# Altium integrated library TI_Logic_Flip-Flop,Latch,Register.IntLib: 2598 symbols (part 47 of 122)
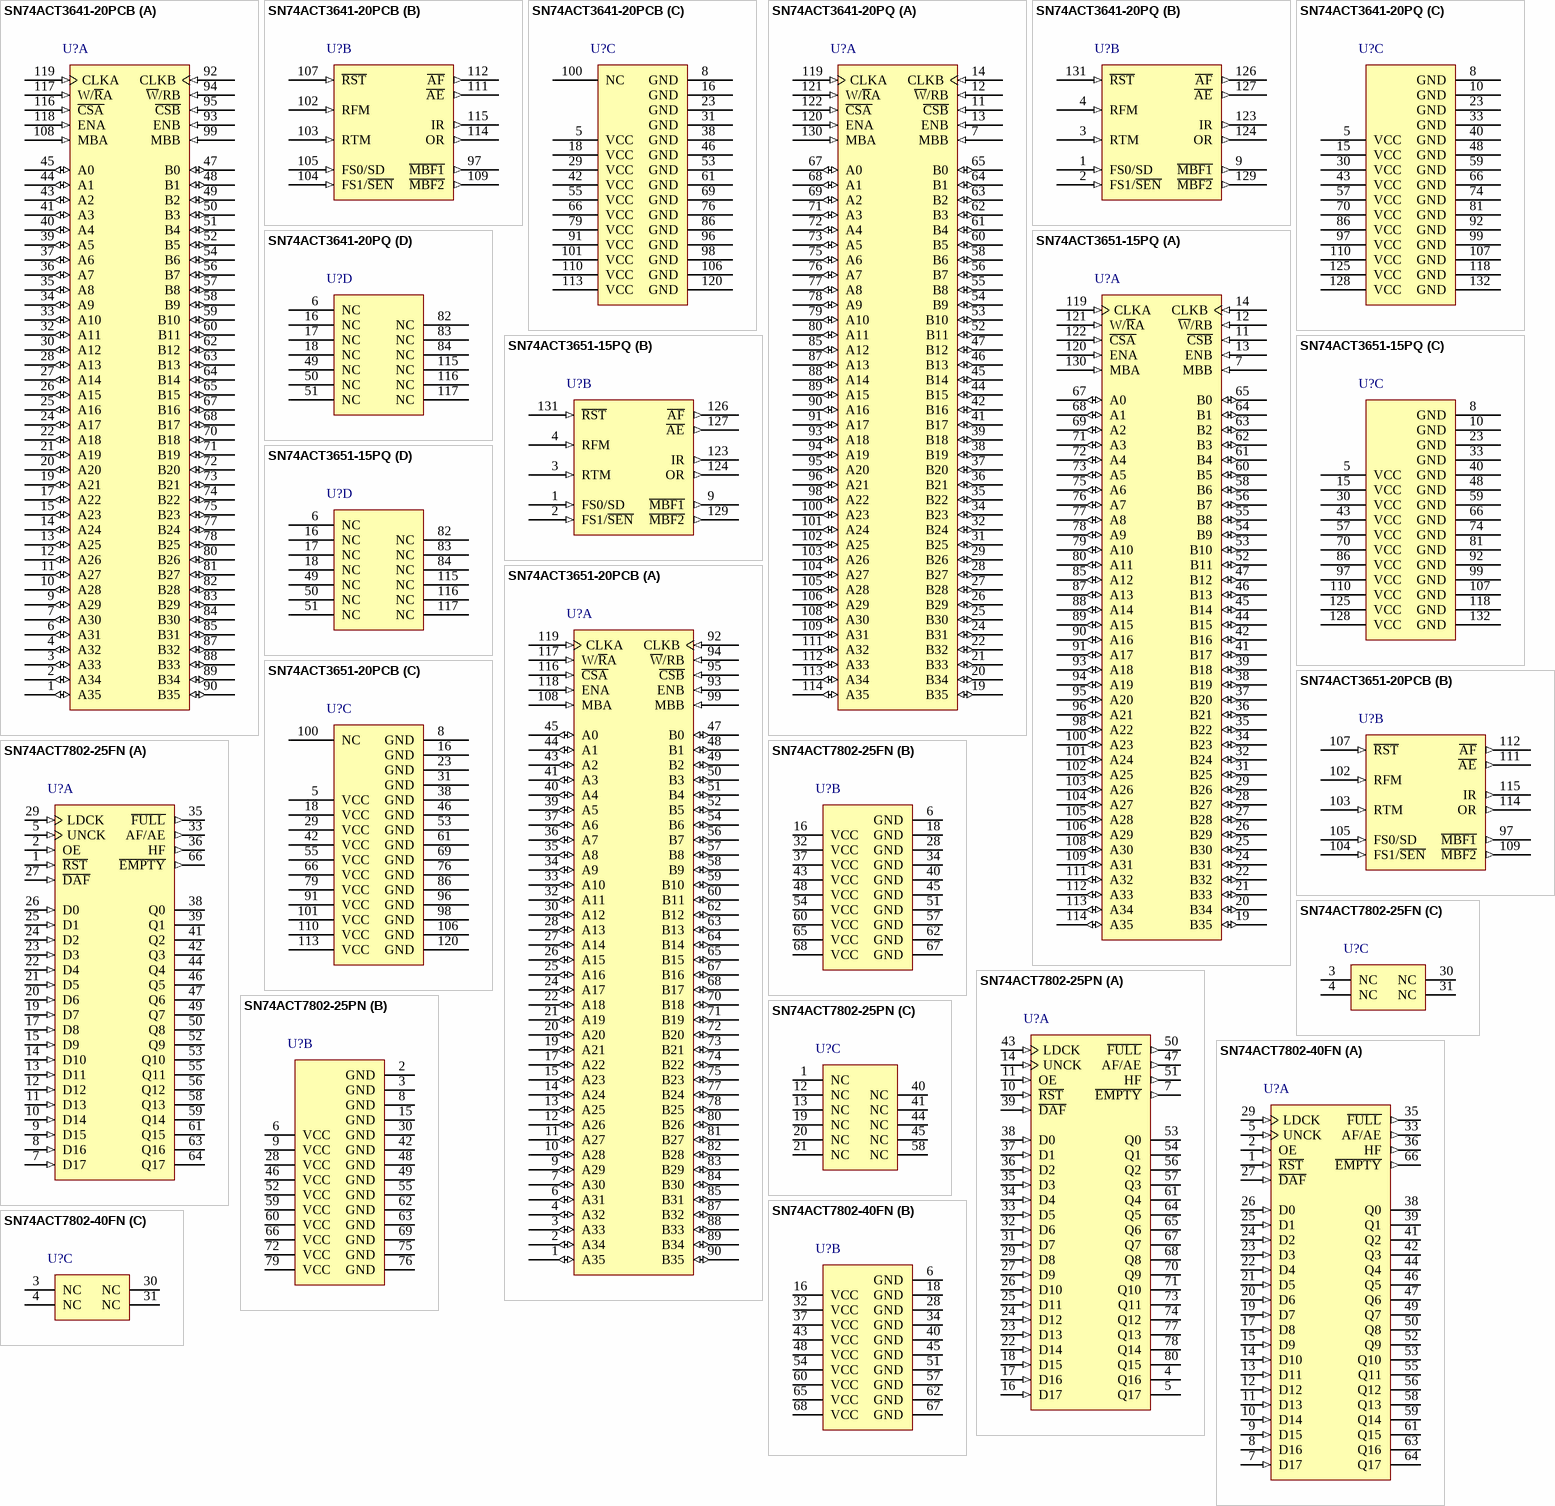
[diagram p185: symbols SN74ACT3641-20PCB to SN74ACT7802-40FN]

## SN74ACT3651-20PCB
designator U?
2048 x 36 synchronous FIFO Memory, PCB0120A, JEDEC TRAY (5+1); Generic Part Number: SN74ACT3651; Manufacturer: Texas Instruments; PartNumber: SN74ACT3651-20PCB; Fmax(MHz): 67; Voltage Nodes(V): 5; Sync/Async: S; Rating: Catalog; Output Drive(mA): -0.5; DatasheetVersion: SCAS439D; PackageReference: PCB0120A; Depth: 2048; Width: 36; Operating Temperature Range(C): 0 to 70; Code_JEDEC: MS-026; ComponentLink1Description: Manufacturer URL; ComponentLink1URL: http://www.ti.com/; ComponentLink2Description: Datasheet; ComponentLink2URL: http://www.ti.com/lit/ds/symlink/sn74act3651.pdf; ComponentLink3Description: Package Specification; ComponentLink3URL: http://www.ti.com/lit/ml/mhtq004a/mhtq004a.pdf
footprint PCB0120A_N (QFP, 120-Leads, Body 14x14mm, Pitch 0.4mm, IPC Medium Density)
footprint PCB0120A_M (QFP, 120-Leads, Body 14x14mm, Pitch 0.4mm, IPC Low Density)
footprint PCB0120A_L (QFP, 120-Leads, Body 14x14mm, Pitch 0.4mm, IPC High Density)
part A pins: 1 A35 (io) "Port-A data. The 36-bit bidirectional data port for side A.", 2 A34 (io) "Port-A data. The 36-bit bidirectional data port for side A.", 3 A33 (io) "Port-A data. The 36-bit bidirectional data port for side A.", 4 A32 (io) "Port-A data. The 36-bit bidirectional data port for side A.", 6 A31 (io) "Port-A data. The 36-bit bidirectional data port for side A.", 7 A30 (io) "Port-A data. The 36-bit bidirectional data port for side A.", 9 A29 (io) "Port-A data. The 36-bit bidirectional data port for side A.", 10 A28 (io) "Port-A data. The 36-bit bidirectional data port for side A.", 11 A27 (io) "Port-A data. The 36-bit bidirectional data port for side A.", 12 A26 (io) "Port-A data. The 36-bit bidirectional data port for side A.", 13 A25 (io) "Port-A data. The 36-bit bidirectional data port for side A.", 14 A24 (io) "Port-A data. The 36-bit bidirectional data port for side A.", 15 A23 (io) "Port-A data. The 36-bit bidirectional data port for side A.", 17 A22 (io) "Port-A data. The 36-bit bidirectional data port for side A.", 19 A21 (io) "Port-A data. The 36-bit bidirectional data port for side A.", 20 A20 (io) "Port-A data. The 36-bit bidirectional data port for side A.", 21 A19 (io) "Port-A data. The 36-bit bidirectional data port for side A.", 22 A18 (io) "Port-A data. The 36-bit bidirectional data port for side A.", 24 A17 (io) "Port-A data. The 36-bit bidirectional data port for side A.", 25 A16 (io) "Port-A data. The 36-bit bidirectional data port for side A.", 26 A15 (io) "Port-A data. The 36-bit bidirectional data port for side A.", 27 A14 (io) "Port-A data. The 36-bit bidirectional data port for side A.", 28 A13 (io) "Port-A data. The 36-bit bidirectional data port for side A.", 30 A12 (io) "Port-A data. The 36-bit bidirectional data port for side A.", 32 A11 (io) "Port-A data. The 36-bit bidirectional data port for side A.", 33 A10 (io) "Port-A data. The 36-bit bidirectional data port for side A.", 34 A9 (io) "Port-A data. The 36-bit bidirectional data port for side A.", 35 A8 (io) "Port-A data. The 36-bit bidirectional data port for side A.", 36 A7 (io) "Port-A data. The 36-bit bidirectional data port for side A.", 37 A6 (io) "Port-A data. The 36-bit bidirectional data port for side A.", 39 A5 (io) "Port-A data. The 36-bit bidirectional data port for side A.", 40 A4 (io) "Port-A data. The 36-bit bidirectional data port for side A.", 41 A3 (io) "Port-A data. The 36-bit bidirectional data port for side A.", 43 A2 (io) "Port-A data. The 36-bit bidirectional data port for side A.", 44 A1 (io) "Port-A data. The 36-bit bidirectional data port for side A.", 45 A0 (io) "Port-A data. The 36-bit bidirectional data port for side A.", 47 B0 (io) "Port-B data. The 36-bit bidirectional data port for side B.", 48 B1 (io) "Port-B data. The 36-bit bidirectional data port for side B.", 49 B2 (io) "Port-B data. The 36-bit bidirectional data port for side B.", 50 B3 (io) "Port-B data. The 36-bit bidirectional data port for side B.", 51 B4 (io) "Port-B data. The 36-bit bidirectional data port for side B.", 52 B5 (io) "Port-B data. The 36-bit bidirectional data port for side B.", 54 B6 (io) "Port-B data. The 36-bit bidirectional data port for side B.", 56 B7 (io) "Port-B data. The 36-bit bidirectional data port for side B.", 57 B8 (io) "Port-B data. The 36-bit bidirectional data port for side B.", 58 B9 (io) "Port-B data. The 36-bit bidirectional data port for side B.", 59 B10 (io) "Port-B data. The 36-bit bidirectional data port for side B.", 60 B11 (io) "Port-B data. The 36-bit bidirectional data port for side B.", 62 B12 (io) "Port-B data. The 36-bit bidirectional data port for side B.", 63 B13 (io) "Port-B data. The 36-bit bidirectional data port for side B.", 64 B14 (io) "Port-B data. The 36-bit bidirectional data port for side B.", 65 B15 (io) "Port-B data. The 36-bit bidirectional data port for side B.", 67 B16 (io) "Port-B data. The 36-bit bidirectional data port for side B.", 68 B17 (io) "Port-B data. The 36-bit bidirectional data port for side B.", 70 B18 (io) "Port-B data. The 36-bit bidirectional data port for side B.", 71 B19 (io) "Port-B data. The 36-bit bidirectional data port for side B.", 72 B20 (io) "Port-B data. The 36-bit bidirectional data port for side B.", 73 B21 (io) "Port-B data. The 36-bit bidirectional data port for side B.", 74 B22 (io) "Port-B data. The 36-bit bidirectional data port for side B.", 75 B23 (io) "Port-B data. The 36-bit bidirectional data port for side B.", 77 B24 (io) "Port-B data. The 36-bit bidirectional data port for side B.", 78 B25 (io) "Port-B data. The 36-bit bidirectional data port for side B.", 80 B26 (io) "Port-B data. The 36-bit bidirectional data port for side B.", 81 B27 (io) "Port-B data. The 36-bit bidirectional data port for side B.", 82 B28 (io) "Port-B data. The 36-bit bidirectional data port for side B.", 83 B29 (io) "Port-B data. The 36-bit bidirectional data port for side B.", 84 B30 (io) "Port-B data. The 36-bit bidirectional data port for side B.", 85 B31 (io) "Port-B data. The 36-bit bidirectional data port for side B.", 87 B32 (io) "Port-B data. The 36-bit bidirectional data port for side B.", 88 B33 (io) "Port-B data. The 36-bit bidirectional data port for side B.", 89 B34 (io) "Port-B data. The 36-bit bidirectional data port for side B.", 90 B35 (io) "Port-B data. The 36-bit bidirectional data port for side B.", 92 CLKB (in) "Port-B clock. CLKB is a continuous clock that synchronizes all data transfers through port B and can be asynchronous or coincident to CLKA. OR and A\E\ are synchronous to the low-to-high transition of CLKB.", 93 ENB (in) "Port-B master enable. ENB must be high to enable a low-to-high transition of CLKB to read or write data on port B.", 94 ~{W}/RB (in) "Port-B write/read select. A low on W\/RB selects a write operation and a high selects a read operation on port B for a low-to-high transition of CLKB. The B0-B35 outputs are in the high-impedance state when W\/RB is low.", 95 ~{CSB} (in) "Port-B chip select. C\S\B\ must be low to enable a low-to-high transition of CLKB to read or write data on port B. The B0-B35 outputs are in the high-impedance state when C\S\B\ is high.", 99 MBB (in) "Port-B mailbox select. A high level on MBB chooses a mailbox register for a port-B read or write operation. When the B0-B35 outputs are active, a high level on MBB selects data from the mail1 register for output and a low (See Datasheet)", 108 MBA (in) "Port-A mailbox select. A high level on MBA chooses a mailbox register for a port-A read or write operation.", 116 ~{CSA} (in) "Port-A chip select. C\S\A\ must be low to enable a low-to-high transition of CLKA to read or write data on port A. The A0-A35 outputs are in the high-impedance state when C\S\A\ is high.", 117 W/~{R}A (in) "Port-A write/read select. A high on W/R\A selects a write operation and a low selects a read operation on port A for a low-to-high transition of CLKA. The A0-A35 outputs are in the high-impedance state when W/R\A is high.", 118 ENA (in) "Port-A master enable. ENA must be high to enable a low-to-high transition of CLKA to read or write data on port A.", 119 CLKA (in) "Port-A clock. CLKA is a continuous clock that synchronizes all data transfers through port A and can be asynchronous or coincident to CLKB. IR and A\F\ are synchronous to the low-to-high transition of CLKA."
part B pins: 97 ~{MBF1} (out) "Mail1 register flag. M\B\F\1\ is set low by the low-to-high transition of CLKA that writes data to the mail1 register. M\B\F\1\ is set high by a low-to-high transition of CLKB when a port-B read is selected and MBB is high. (See Datasheet)", 102 RFM (in) "Read from mark. When the FIFO is in retransmit mode, a high on RFM enables a low-to-high transition of CLKB to reset the read pointer to the beginning retransmit location and output the first selected retransmit data.", 103 RTM (in) "Retransmit mode. When RTM is high and valid data is present in the FIFO output register (OR is high), a low-to-high transition of CLKB selects the data for the beginning of a retransmit and puts the FIFO in retransmit mode. (See Datasheet)", 104 FS1/~{SEN} (in) "Flag-offset select 1/serial enable, flag-offset select 0/serial data. FS1/S\E\N\ and FS0/SD are dual-purpose inputs used for flag-offset-register programming. During a device reset, FS1/S\E\N\ and FS0/SD select the (See Datasheet)", 105 FS0/SD (in) "Flag-offset select 1/serial enable, flag-offset select 0/serial data. FS1/S\E\N\ and FS0/SD are dual-purpose inputs used for flag-offset-register programming. During a device reset, FS1/S\E\N\ and FS0/SD select the (See Datasheet)", 107 ~{RST} (in) "Reset. To reset the device, four low-to-high transitions of CLKA and four low-to-high transitions of CLKB must occur while R\S\T\ is low. The low-to-high transition of R\S\T\ latches the status of FS0 and FS1 for A\F\ and (See Datasheet)", 109 ~{MBF2} (out) "Mail2 register flag. M\B\F\2\ is set low by the low-to-high transition of CLKB that writes data to the mail2 register. M\B\F\2\ is set high by a low-to-high transition of CLKA when a port-A read is selected and MBA is high. (See Datasheet)", 111 ~{AE} (out) "Almost-empty flag. Programmable flag synchronized to CLKB. A\E\ is low when the number of words in the FIFO is less than or equal to the value in the almost-empty offset register (X).", 112 ~{AF} (out) "Almost-full flag. Programmable flag synchronized to CLKA. A\F\ is low when the number of empty locations in the FIFO is less than or equal to the value in the almost-full offset register (Y).", 114 OR (out) "Output-ready flag. OR is synchronized to the low-to-high transition of CLKB. When OR is low, the FIFO is empty and reads are disabled. Ready data is present in the output register of the FIFO when OR is high. OR is forced (See Datasheet)", 115 IR (out) "Input-ready flag. IR is synchronized to the low-to-high transition of CLKA. When IR is low, the FIFO is full and writes to its array are disabled. When the FIFO is in retransmit mode, IR indicates when the memory has been (See Datasheet)"
part C pins: 5 VCC (power), 8 GND (power), 16 GND (power), 18 VCC (power), 23 GND (power), 29 VCC (power), 31 GND (power), 38 GND (power), 42 VCC (power), 46 GND (power), 53 GND (power), 55 VCC (power), 61 GND (power), 66 VCC (power), 69 GND (power), 76 GND (power), 79 VCC (power), 86 GND (power), 91 VCC (power), 96 GND (power), 98 GND (power), 100 NC, 101 VCC (power), 106 GND (power), 110 VCC (power), 113 VCC (power), 120 GND (power)

## SN74ACT7802-25FN
designator U?
1024 X 18 asynchronous FIFO memory, FN0068A, TUBE; Generic Part Number: SN74ACT7802; Manufacturer: Texas Instruments; PartNumber: SN74ACT7802-25FN; Vcc range(V): 4.5 to 5.5; Fmax(MHz): 40; Voltage Nodes(V): 5; Sync/Async: A; Rating: Catalog; Output Drive(mA): -0.5; DatasheetVersion: SCAS187D; PackageReference: FN0068A; Depth: 1024; Width: 18; Code_JEDEC: MS-018; ComponentLink1Description: Manufacturer URL; ComponentLink1URL: http://www.ti.com/; ComponentLink2Description: Datasheet; ComponentLink2URL: http://www.ti.com/lit/ds/symlink/sn74act7802.pdf; ComponentLink3Description: Package Specification; ComponentLink3URL: http://www.ti.com/lit/ml/mplc004a/mplc004a.pdf
footprint FN0068A_N (Leaded Chip Carrier, 68-Leads, Body 24.33x24.33mm, Pitch 1.27mm, IPC Medium Density)
footprint FN0068A_M (Leaded Chip Carrier, 68-Leads, Body 24.33x24.33mm, Pitch 1.27mm, IPC Low Density)
footprint FN0068A_L (Leaded Chip Carrier, 68-Leads, Body 24.33x24.33mm, Pitch 1.27mm, IPC High Density)
part A pins: 1 ~{RST} (in) "Reset. A low level on R\E\S\E\T\ resets the FIFO and drives AF/AE and F\U\L\L\ high and HF and E\M\P\T\Y\ low.", 2 OE (in) "Output enable. When OE is low, the data outputs are in the high-impedance state.", 5 UNCK (in) "Unload clock. Data is read from the FIFO on the rising edge of UNCK when E\M\P\T\Y\ is high.", 7 D17 (in) "18-bit data input port", 8 D16 (in) "18-bit data input port", 9 D15 (in) "18-bit data input port", 10 D14 (in) "18-bit data input port", 11 D13 (in) "18-bit data input port", 12 D12 (in) "18-bit data input port", 13 D11 (in) "18-bit data input port", 14 D10 (in) "18-bit data input port", 15 D9 (in) "18-bit data input port", 17 D8 (in) "18-bit data input port", 19 D7 (in) "18-bit data input port", 20 D6 (in) "18-bit data input port", 21 D5 (in) "18-bit data input port", 22 D4 (in) "18-bit data input port", 23 D3 (in) "18-bit data input port", 24 D2 (in) "18-bit data input port", 25 D1 (in) "18-bit data input port", 26 D0 (in) "18-bit data input port", 27 ~{DAF} (in) "Define almost-full flag. The high-to-low transition of D\A\F\ stores the binary value of data inputs as the AF/AE offset value (X). With DAF held low, a low pulse on R\E\S\E\T\ defines AF/AE using X.", 29 LDCK (in) "Load clock. Data is written to the FIFO on the rising edge of LDCK when F\U\L\L\ is high.", 33 AF/AE (out) "Almost-full/almost-empty flag. Depth-offset values can be programmed for AF/AE, or the default value of 256 can be used for the almost-empty almost-full offset (X). AF/AE is high when memory contains X or fewer words or (See Datasheet)", 35 ~{FULL} (out) "Full flag. F\U\L\L\ is low when the FIFO is full. A FIFO reset causes F\U\L\L\ to go high.", 36 HF (out) "Half-full flag. HF is high when the FIFO memory contains 512 or more words. HF is low after reset.", 38 Q0 (hiz) "18-bit data-output port", 39 Q1 (hiz) "18-bit data-output port", 41 Q2 (hiz) "18-bit data-output port", 42 Q3 (hiz) "18-bit data-output port", 44 Q4 (hiz) "18-bit data-output port", 46 Q5 (hiz) "18-bit data-output port", 47 Q6 (hiz) "18-bit data-output port", 49 Q7 (hiz) "18-bit data-output port", 50 Q8 (hiz) "18-bit data-output port", 52 Q9 (hiz) "18-bit data-output port", 53 Q10 (hiz) "18-bit data-output port", 55 Q11 (hiz) "18-bit data-output port", 56 Q12 (hiz) "18-bit data-output port", 58 Q13 (hiz) "18-bit data-output port", 59 Q14 (hiz) "18-bit data-output port", 61 Q15 (hiz) "18-bit data-output port", 63 Q16 (hiz) "18-bit data-output port", 64 Q17 (hiz) "18-bit data-output port", 66 ~{EMPTY} (out) "Empty flag. E\M\P\T\Y\ is low when the FIFO is empty. A FIFO reset also causes E\M\P\T\Y\ to go low."
part B pins: 6 GND (power), 16 VCC (power), 18 GND (power), 28 GND (power), 32 VCC (power), 34 GND (power), 37 VCC (power), 40 GND (power), 43 VCC (power), 45 GND (power), 48 VCC (power), 51 GND (power), 54 VCC (power), 57 GND (power), 60 VCC (power), 62 GND (power), 65 VCC (power), 67 GND (power), 68 VCC (power)
part C pins: 3 NC, 4 NC, 30 NC, 31 NC

## SN74ACT7802-25PN
designator U?
1024 X 18 asynchronous FIFO memory, PN0080A, JEDEC TRAY (10+1); Generic Part Number: SN74ACT7802; Manufacturer: Texas Instruments; PartNumber: SN74ACT7802-25PN; Vcc range(V): 4.5 to 5.5; Fmax(MHz): 40; Voltage Nodes(V): 5; Sync/Async: A; Rating: Catalog; Output Drive(mA): -0.5; DatasheetVersion: SCAS187D; PackageReference: PN0080A; Depth: 1024; Width: 18; Code_JEDEC: MS-026; ComponentLink1Description: Manufacturer URL; ComponentLink1URL: http://www.ti.com/; ComponentLink2Description: Datasheet; ComponentLink2URL: http://www.ti.com/lit/ds/symlink/sn74act7802.pdf; ComponentLink3Description: Package Specification; ComponentLink3URL: http://www.ti.com/lit/ml/mtqf010a/mtqf010a.pdf
footprint PN0080A_N (QFP, 80-Leads, Body 12x12mm, Pitch 0.5mm, IPC Medium Density)
footprint PN0080A_M (QFP, 80-Leads, Body 12x12mm, Pitch 0.5mm, IPC Low Density)
footprint PN0080A_L (QFP, 80-Leads, Body 12x12mm, Pitch 0.5mm, IPC High Density)
part A pins: 4 Q16 (hiz) "18-bit data-output port", 5 Q17 (hiz) "18-bit data-output port", 7 ~{EMPTY} (out) "Empty flag. E\M\P\T\Y\ is low when the FIFO is empty. A FIFO reset also causes E\M\P\T\Y\ to go low.", 10 ~{RST} (in) "Reset. A low level on R\E\S\E\T\ resets the FIFO and drives AF/AE and F\U\L\L\ high and HF and E\M\P\T\Y\ low.", 11 OE (in) "Output enable. When OE is low, the data outputs are in the high-impedance state.", 14 UNCK (in) "Unload clock. Data is read from the FIFO on the rising edge of UNCK when E\M\P\T\Y\ is high.", 16 D17 (in) "18-bit data input port", 17 D16 (in) "18-bit data input port", 18 D15 (in) "18-bit data input port", 22 D14 (in) "18-bit data input port", 23 D13 (in) "18-bit data input port", 24 D12 (in) "18-bit data input port", 25 D11 (in) "18-bit data input port", 26 D10 (in) "18-bit data input port", 27 D9 (in) "18-bit data input port", 29 D8 (in) "18-bit data input port", 31 D7 (in) "18-bit data input port", 32 D6 (in) "18-bit data input port", 33 D5 (in) "18-bit data input port", 34 D4 (in) "18-bit data input port", 35 D3 (in) "18-bit data input port", 36 D2 (in) "18-bit data input port", 37 D1 (in) "18-bit data input port", 38 D0 (in) "18-bit data input port", 39 ~{DAF} (in) "Define almost-full flag. The high-to-low transition of D\A\F\ stores the binary value of data inputs as the AF/AE offset value (X). With DAF held low, a low pulse on R\E\S\E\T\ defines AF/AE using X.", 43 LDCK (in) "Load clock. Data is written to the FIFO on the rising edge of LDCK when F\U\L\L\ is high.", 47 AF/AE (out) "Almost-full/almost-empty flag. Depth-offset values can be programmed for AF/AE, or the default value of 256 can be used for the almost-empty almost-full offset (X). AF/AE is high when memory contains X or fewer words or (See Datasheet)", 50 ~{FULL} (out) "Full flag. F\U\L\L\ is low when the FIFO is full. A FIFO reset causes F\U\L\L\ to go high.", 51 HF (out) "Half-full flag. HF is high when the FIFO memory contains 512 or more words. HF is low after reset.", 53 Q0 (hiz) "18-bit data-output port", 54 Q1 (hiz) "18-bit data-output port", 56 Q2 (hiz) "18-bit data-output port", 57 Q3 (hiz) "18-bit data-output port", 61 Q4 (hiz) "18-bit data-output port", 64 Q5 (hiz) "18-bit data-output port", 65 Q6 (hiz) "18-bit data-output port", 67 Q7 (hiz) "18-bit data-output port", 68 Q8 (hiz) "18-bit data-output port", 70 Q9 (hiz) "18-bit data-output port", 71 Q10 (hiz) "18-bit data-output port", 73 Q11 (hiz) "18-bit data-output port", 74 Q12 (hiz) "18-bit data-output port", 77 Q13 (hiz) "18-bit data-output port", 78 Q14 (hiz) "18-bit data-output port", 80 Q15 (hiz) "18-bit data-output port"
part B pins: 2 GND (power), 3 GND (power), 6 VCC (power), 8 GND (power), 9 VCC (power), 15 GND (power), 28 VCC (power), 30 GND (power), 42 GND (power), 46 VCC (power), 48 GND (power), 49 GND (power), 52 VCC (power), 55 GND (power), 59 VCC (power), 60 VCC (power), 62 GND (power), 63 GND (power), 66 VCC (power), 69 GND (power), 72 VCC (power), 75 GND (power), 76 GND (power), 79 VCC (power)
part C pins: 1 NC, 12 NC, 13 NC, 19 NC, 20 NC, 21 NC, 40 NC, 41 NC, 44 NC, 45 NC, 58 NC

## SN74ACT7802-40FN
designator U?
1024 X 18 asynchronous FIFO memory, FN0068A, TUBE; Generic Part Number: SN74ACT7802; Manufacturer: Texas Instruments; PartNumber: SN74ACT7802-40FN; Vcc range(V): 4.5 to 5.5; Fmax(MHz): 40; Voltage Nodes(V): 5; Sync/Async: A; Rating: Catalog; Output Drive(mA): -0.5; DatasheetVersion: SCAS187D; PackageReference: FN0068A; Depth: 1024; Width: 18; Code_JEDEC: MS-018; ComponentLink1Description: Manufacturer URL; ComponentLink1URL: http://www.ti.com/; ComponentLink2Description: Datasheet; ComponentLink2URL: http://www.ti.com/lit/ds/symlink/sn74act7802.pdf; ComponentLink3Description: Package Specification; ComponentLink3URL: http://www.ti.com/lit/ml/mplc004a/mplc004a.pdf
footprint FN0068A_N (Leaded Chip Carrier, 68-Leads, Body 24.33x24.33mm, Pitch 1.27mm, IPC Medium Density)
footprint FN0068A_M (Leaded Chip Carrier, 68-Leads, Body 24.33x24.33mm, Pitch 1.27mm, IPC Low Density)
footprint FN0068A_L (Leaded Chip Carrier, 68-Leads, Body 24.33x24.33mm, Pitch 1.27mm, IPC High Density)
part A pins: 1 ~{RST} (in) "Reset. A low level on R\E\S\E\T\ resets the FIFO and drives AF/AE and F\U\L\L\ high and HF and E\M\P\T\Y\ low.", 2 OE (in) "Output enable. When OE is low, the data outputs are in the high-impedance state.", 5 UNCK (in) "Unload clock. Data is read from the FIFO on the rising edge of UNCK when E\M\P\T\Y\ is high.", 7 D17 (in) "18-bit data input port", 8 D16 (in) "18-bit data input port", 9 D15 (in) "18-bit data input port", 10 D14 (in) "18-bit data input port", 11 D13 (in) "18-bit data input port", 12 D12 (in) "18-bit data input port", 13 D11 (in) "18-bit data input port", 14 D10 (in) "18-bit data input port", 15 D9 (in) "18-bit data input port", 17 D8 (in) "18-bit data input port", 19 D7 (in) "18-bit data input port", 20 D6 (in) "18-bit data input port", 21 D5 (in) "18-bit data input port", 22 D4 (in) "18-bit data input port", 23 D3 (in) "18-bit data input port", 24 D2 (in) "18-bit data input port", 25 D1 (in) "18-bit data input port", 26 D0 (in) "18-bit data input port", 27 ~{DAF} (in) "Define almost-full flag. The high-to-low transition of D\A\F\ stores the binary value of data inputs as the AF/AE offset value (X). With DAF held low, a low pulse on R\E\S\E\T\ defines AF/AE using X.", 29 LDCK (in) "Load clock. Data is written to the FIFO on the rising edge of LDCK when F\U\L\L\ is high.", 33 AF/AE (out) "Almost-full/almost-empty flag. Depth-offset values can be programmed for AF/AE, or the default value of 256 can be used for the almost-empty almost-full offset (X). AF/AE is high when memory contains X or fewer words or (See Datasheet)", 35 ~{FULL} (out) "Full flag. F\U\L\L\ is low when the FIFO is full. A FIFO reset causes F\U\L\L\ to go high.", 36 HF (out) "Half-full flag. HF is high when the FIFO memory contains 512 or more words. HF is low after reset.", 38 Q0 (hiz) "18-bit data-output port", 39 Q1 (hiz) "18-bit data-output port", 41 Q2 (hiz) "18-bit data-output port", 42 Q3 (hiz) "18-bit data-output port", 44 Q4 (hiz) "18-bit data-output port", 46 Q5 (hiz) "18-bit data-output port", 47 Q6 (hiz) "18-bit data-output port", 49 Q7 (hiz) "18-bit data-output port", 50 Q8 (hiz) "18-bit data-output port", 52 Q9 (hiz) "18-bit data-output port", 53 Q10 (hiz) "18-bit data-output port", 55 Q11 (hiz) "18-bit data-output port", 56 Q12 (hiz) "18-bit data-output port", 58 Q13 (hiz) "18-bit data-output port", 59 Q14 (hiz) "18-bit data-output port", 61 Q15 (hiz) "18-bit data-output port", 63 Q16 (hiz) "18-bit data-output port", 64 Q17 (hiz) "18-bit data-output port", 66 ~{EMPTY} (out) "Empty flag. E\M\P\T\Y\ is low when the FIFO is empty. A FIFO reset also causes E\M\P\T\Y\ to go low."
part B pins: 6 GND (power), 16 VCC (power), 18 GND (power), 28 GND (power), 32 VCC (power), 34 GND (power), 37 VCC (power), 40 GND (power), 43 VCC (power), 45 GND (power), 48 VCC (power), 51 GND (power), 54 VCC (power), 57 GND (power), 60 VCC (power), 62 GND (power), 65 VCC (power), 67 GND (power), 68 VCC (power)
part C pins: 3 NC, 4 NC, 30 NC, 31 NC

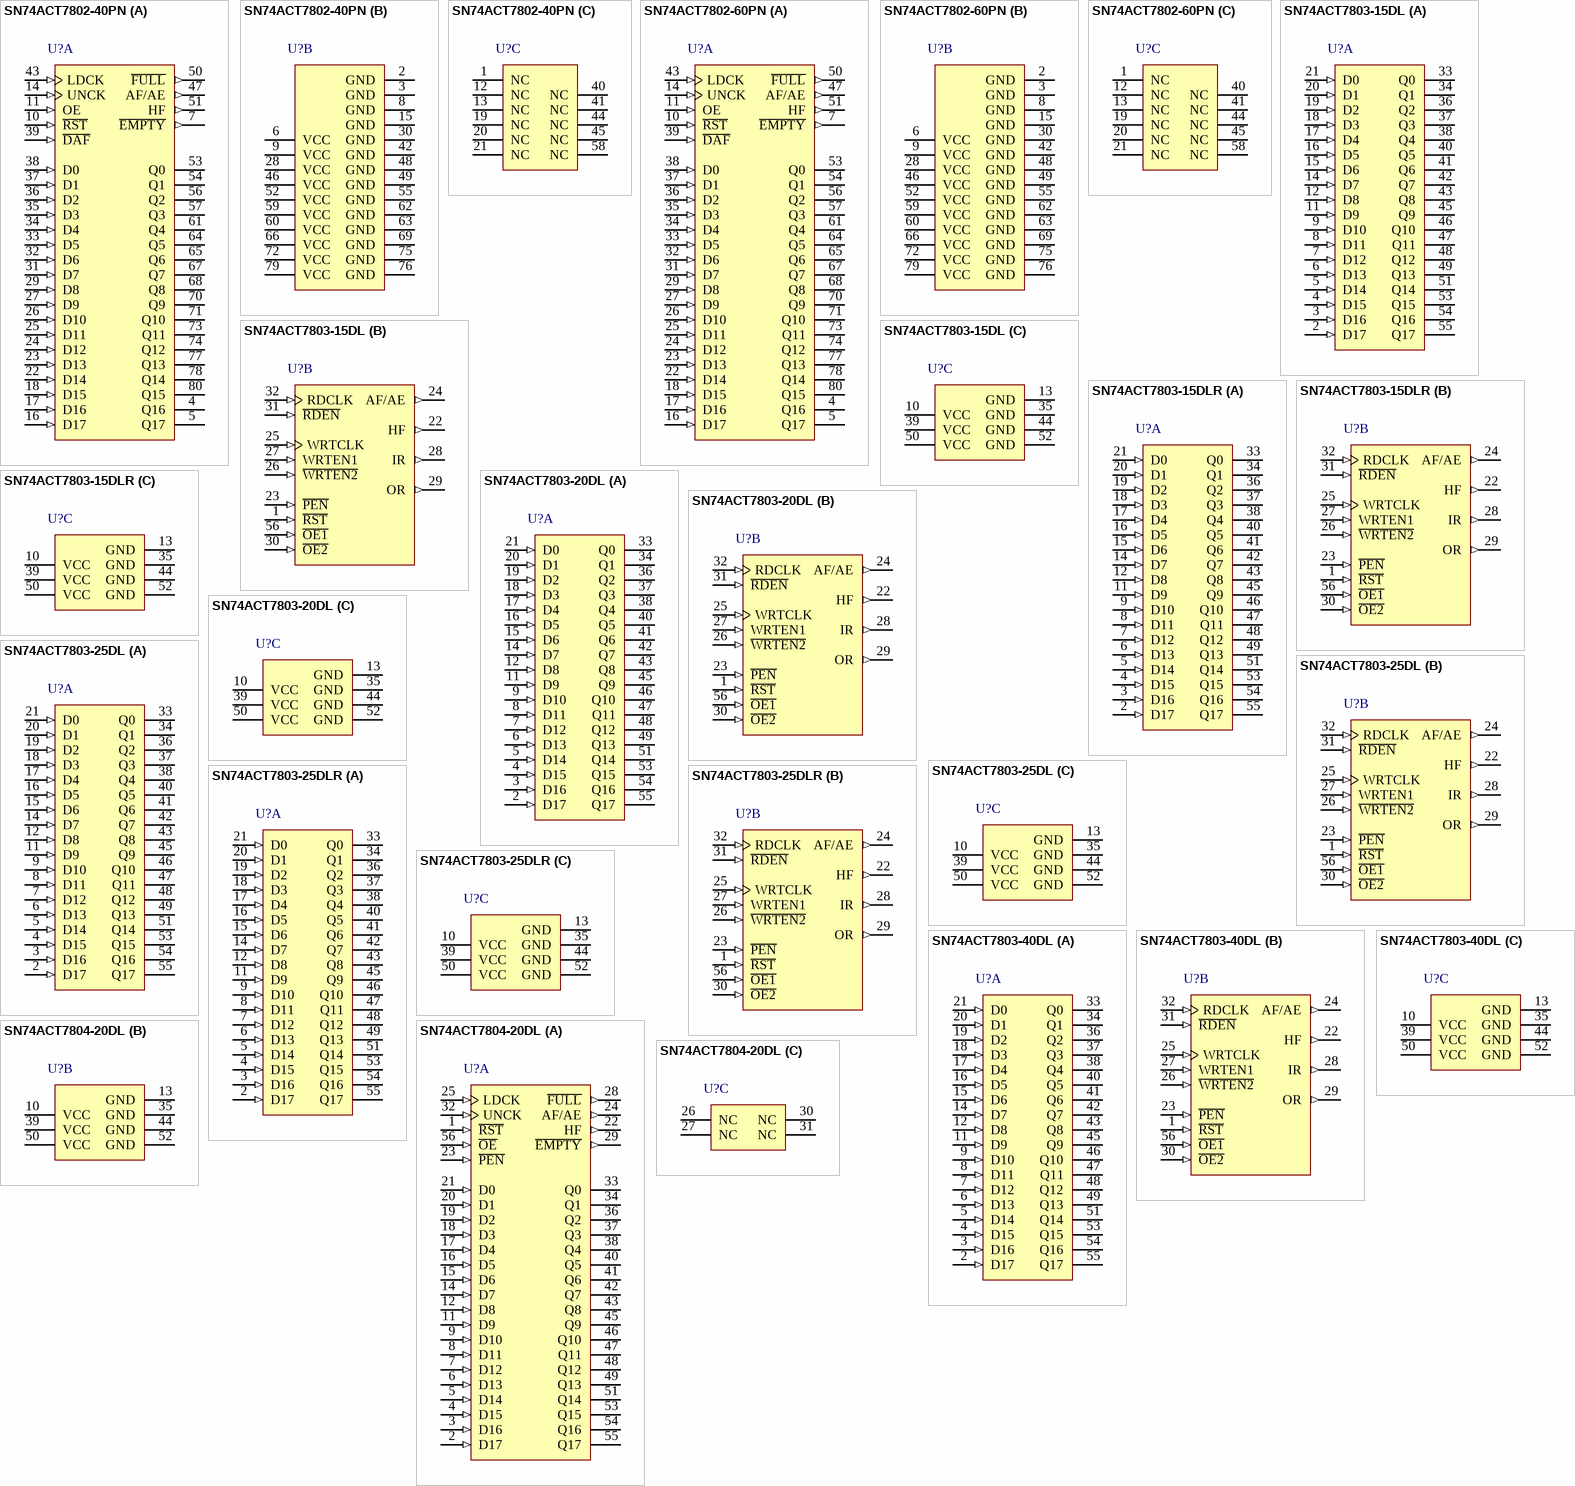
[diagram p59: symbols SN74ACT7802-40PN to SN74ACT7804-20DL]

## SN74ACT7802-40PN
designator U?
1024 X 18 asynchronous FIFO memory, PN0080A, JEDEC TRAY (10+1); Generic Part Number: SN74ACT7802; Manufacturer: Texas Instruments; PartNumber: SN74ACT7802-40PN; Vcc range(V): 4.5 to 5.5; Fmax(MHz): 40; Voltage Nodes(V): 5; Sync/Async: A; Rating: Catalog; Output Drive(mA): -0.5; DatasheetVersion: SCAS187D; PackageReference: PN0080A; Depth: 1024; Width: 18; Code_JEDEC: MS-026; ComponentLink1Description: Manufacturer URL; ComponentLink1URL: http://www.ti.com/; ComponentLink2Description: Datasheet; ComponentLink2URL: http://www.ti.com/lit/ds/symlink/sn74act7802.pdf; ComponentLink3Description: Package Specification; ComponentLink3URL: http://www.ti.com/lit/ml/mtqf010a/mtqf010a.pdf
footprint PN0080A_N (QFP, 80-Leads, Body 12x12mm, Pitch 0.5mm, IPC Medium Density)
footprint PN0080A_M (QFP, 80-Leads, Body 12x12mm, Pitch 0.5mm, IPC Low Density)
footprint PN0080A_L (QFP, 80-Leads, Body 12x12mm, Pitch 0.5mm, IPC High Density)
part A pins: 4 Q16 (hiz) "18-bit data-output port", 5 Q17 (hiz) "18-bit data-output port", 7 ~{EMPTY} (out) "Empty flag. E\M\P\T\Y\ is low when the FIFO is empty. A FIFO reset also causes E\M\P\T\Y\ to go low.", 10 ~{RST} (in) "Reset. A low level on R\E\S\E\T\ resets the FIFO and drives AF/AE and F\U\L\L\ high and HF and E\M\P\T\Y\ low.", 11 OE (in) "Output enable. When OE is low, the data outputs are in the high-impedance state.", 14 UNCK (in) "Unload clock. Data is read from the FIFO on the rising edge of UNCK when E\M\P\T\Y\ is high.", 16 D17 (in) "18-bit data input port", 17 D16 (in) "18-bit data input port", 18 D15 (in) "18-bit data input port", 22 D14 (in) "18-bit data input port", 23 D13 (in) "18-bit data input port", 24 D12 (in) "18-bit data input port", 25 D11 (in) "18-bit data input port", 26 D10 (in) "18-bit data input port", 27 D9 (in) "18-bit data input port", 29 D8 (in) "18-bit data input port", 31 D7 (in) "18-bit data input port", 32 D6 (in) "18-bit data input port", 33 D5 (in) "18-bit data input port", 34 D4 (in) "18-bit data input port", 35 D3 (in) "18-bit data input port", 36 D2 (in) "18-bit data input port", 37 D1 (in) "18-bit data input port", 38 D0 (in) "18-bit data input port", 39 ~{DAF} (in) "Define almost-full flag. The high-to-low transition of D\A\F\ stores the binary value of data inputs as the AF/AE offset value (X). With DAF held low, a low pulse on R\E\S\E\T\ defines AF/AE using X.", 43 LDCK (in) "Load clock. Data is written to the FIFO on the rising edge of LDCK when F\U\L\L\ is high.", 47 AF/AE (out) "Almost-full/almost-empty flag. Depth-offset values can be programmed for AF/AE, or the default value of 256 can be used for the almost-empty almost-full offset (X). AF/AE is high when memory contains X or fewer words or (See Datasheet)", 50 ~{FULL} (out) "Full flag. F\U\L\L\ is low when the FIFO is full. A FIFO reset causes F\U\L\L\ to go high.", 51 HF (out) "Half-full flag. HF is high when the FIFO memory contains 512 or more words. HF is low after reset.", 53 Q0 (hiz) "18-bit data-output port", 54 Q1 (hiz) "18-bit data-output port", 56 Q2 (hiz) "18-bit data-output port", 57 Q3 (hiz) "18-bit data-output port", 61 Q4 (hiz) "18-bit data-output port", 64 Q5 (hiz) "18-bit data-output port", 65 Q6 (hiz) "18-bit data-output port", 67 Q7 (hiz) "18-bit data-output port", 68 Q8 (hiz) "18-bit data-output port", 70 Q9 (hiz) "18-bit data-output port", 71 Q10 (hiz) "18-bit data-output port", 73 Q11 (hiz) "18-bit data-output port", 74 Q12 (hiz) "18-bit data-output port", 77 Q13 (hiz) "18-bit data-output port", 78 Q14 (hiz) "18-bit data-output port", 80 Q15 (hiz) "18-bit data-output port"
part B pins: 2 GND (power), 3 GND (power), 6 VCC (power), 8 GND (power), 9 VCC (power), 15 GND (power), 28 VCC (power), 30 GND (power), 42 GND (power), 46 VCC (power), 48 GND (power), 49 GND (power), 52 VCC (power), 55 GND (power), 59 VCC (power), 60 VCC (power), 62 GND (power), 63 GND (power), 66 VCC (power), 69 GND (power), 72 VCC (power), 75 GND (power), 76 GND (power), 79 VCC (power)
part C pins: 1 NC, 12 NC, 13 NC, 19 NC, 20 NC, 21 NC, 40 NC, 41 NC, 44 NC, 45 NC, 58 NC

## SN74ACT7802-60PN
designator U?
1024 X 18 asynchronous FIFO memory, PN0080A, JEDEC TRAY (10+1); Generic Part Number: SN74ACT7802; Manufacturer: Texas Instruments; PartNumber: SN74ACT7802-60PN; Vcc range(V): 4.5 to 5.5; Fmax(MHz): 40; Voltage Nodes(V): 5; Sync/Async: A; Rating: Catalog; Output Drive(mA): -0.5; DatasheetVersion: SCAS187D; PackageReference: PN0080A; Depth: 1024; Width: 18; Code_JEDEC: MS-026; ComponentLink1Description: Manufacturer URL; ComponentLink1URL: http://www.ti.com/; ComponentLink2Description: Datasheet; ComponentLink2URL: http://www.ti.com/lit/ds/symlink/sn74act7802.pdf; ComponentLink3Description: Package Specification; ComponentLink3URL: http://www.ti.com/lit/ml/mtqf010a/mtqf010a.pdf
footprint PN0080A_N (QFP, 80-Leads, Body 12x12mm, Pitch 0.5mm, IPC Medium Density)
footprint PN0080A_M (QFP, 80-Leads, Body 12x12mm, Pitch 0.5mm, IPC Low Density)
footprint PN0080A_L (QFP, 80-Leads, Body 12x12mm, Pitch 0.5mm, IPC High Density)
part A pins: 4 Q16 (hiz) "18-bit data-output port", 5 Q17 (hiz) "18-bit data-output port", 7 ~{EMPTY} (out) "Empty flag. E\M\P\T\Y\ is low when the FIFO is empty. A FIFO reset also causes E\M\P\T\Y\ to go low.", 10 ~{RST} (in) "Reset. A low level on R\E\S\E\T\ resets the FIFO and drives AF/AE and F\U\L\L\ high and HF and E\M\P\T\Y\ low.", 11 OE (in) "Output enable. When OE is low, the data outputs are in the high-impedance state.", 14 UNCK (in) "Unload clock. Data is read from the FIFO on the rising edge of UNCK when E\M\P\T\Y\ is high.", 16 D17 (in) "18-bit data input port", 17 D16 (in) "18-bit data input port", 18 D15 (in) "18-bit data input port", 22 D14 (in) "18-bit data input port", 23 D13 (in) "18-bit data input port", 24 D12 (in) "18-bit data input port", 25 D11 (in) "18-bit data input port", 26 D10 (in) "18-bit data input port", 27 D9 (in) "18-bit data input port", 29 D8 (in) "18-bit data input port", 31 D7 (in) "18-bit data input port", 32 D6 (in) "18-bit data input port", 33 D5 (in) "18-bit data input port", 34 D4 (in) "18-bit data input port", 35 D3 (in) "18-bit data input port", 36 D2 (in) "18-bit data input port", 37 D1 (in) "18-bit data input port", 38 D0 (in) "18-bit data input port", 39 ~{DAF} (in) "Define almost-full flag. The high-to-low transition of D\A\F\ stores the binary value of data inputs as the AF/AE offset value (X). With DAF held low, a low pulse on R\E\S\E\T\ defines AF/AE using X.", 43 LDCK (in) "Load clock. Data is written to the FIFO on the rising edge of LDCK when F\U\L\L\ is high.", 47 AF/AE (out) "Almost-full/almost-empty flag. Depth-offset values can be programmed for AF/AE, or the default value of 256 can be used for the almost-empty almost-full offset (X). AF/AE is high when memory contains X or fewer words or (See Datasheet)", 50 ~{FULL} (out) "Full flag. F\U\L\L\ is low when the FIFO is full. A FIFO reset causes F\U\L\L\ to go high.", 51 HF (out) "Half-full flag. HF is high when the FIFO memory contains 512 or more words. HF is low after reset.", 53 Q0 (hiz) "18-bit data-output port", 54 Q1 (hiz) "18-bit data-output port", 56 Q2 (hiz) "18-bit data-output port", 57 Q3 (hiz) "18-bit data-output port", 61 Q4 (hiz) "18-bit data-output port", 64 Q5 (hiz) "18-bit data-output port", 65 Q6 (hiz) "18-bit data-output port", 67 Q7 (hiz) "18-bit data-output port", 68 Q8 (hiz) "18-bit data-output port", 70 Q9 (hiz) "18-bit data-output port", 71 Q10 (hiz) "18-bit data-output port", 73 Q11 (hiz) "18-bit data-output port", 74 Q12 (hiz) "18-bit data-output port", 77 Q13 (hiz) "18-bit data-output port", 78 Q14 (hiz) "18-bit data-output port", 80 Q15 (hiz) "18-bit data-output port"
part B pins: 2 GND (power), 3 GND (power), 6 VCC (power), 8 GND (power), 9 VCC (power), 15 GND (power), 28 VCC (power), 30 GND (power), 42 GND (power), 46 VCC (power), 48 GND (power), 49 GND (power), 52 VCC (power), 55 GND (power), 59 VCC (power), 60 VCC (power), 62 GND (power), 63 GND (power), 66 VCC (power), 69 GND (power), 72 VCC (power), 75 GND (power), 76 GND (power), 79 VCC (power)
part C pins: 1 NC, 12 NC, 13 NC, 19 NC, 20 NC, 21 NC, 40 NC, 41 NC, 44 NC, 45 NC, 58 NC

## SN74ACT7803-15DL
designator U?
512 x 18 synchronous FIFO memory, DL0056A, TUBE; Generic Part Number: SN74ACT7803; Manufacturer: Texas Instruments; PartNumber: SN74ACT7803-15DL; Fmax(MHz): 67; Voltage Nodes(V): 5; Sync/Async: S; Rating: Catalog; Output Drive(mA): -0.5; DatasheetVersion: SCAS191C; PackageReference: DL0056A; Depth: 512; Width: 18; Code_JEDEC: MO-118; ComponentLink1Description: Manufacturer URL; ComponentLink1URL: http://www.ti.com/; ComponentLink2Description: Datasheet; ComponentLink2URL: http://www.ti.com/lit/ds/symlink/sn74act7803.pdf; ComponentLink3Description: Package Specification; ComponentLink3URL: http://www.ti.com/lit/ml/mpds491/mpds491.pdf
footprint DL0056A_N (SOP, 56-Leads, Body 7.6x18.5mm, Pitch 0.635mm, IPC Medium Density)
footprint DL0056A_M (SOP, 56-Leads, Body 7.6x18.5mm, Pitch 0.635mm, IPC Low Density)
footprint DL0056A_L (SOP, 56-Leads, Body 7.6x18.5mm, Pitch 0.635mm, IPC High Density)
part A pins: 2 D17 (in) "18-bit data input port", 3 D16 (in) "18-bit data input port", 4 D15 (in) "18-bit data input port", 5 D14 (in) "18-bit data input port", 6 D13 (in) "18-bit data input port", 7 D12 (in) "18-bit data input port", 8 D11 (in) "18-bit data input port", 9 D10 (in) "18-bit data input port", 11 D9 (in) "18-bit data input port", 12 D8 (in) "18-bit data input port", 14 D7 (in) "18-bit data input port", 15 D6 (in) "18-bit data input port", 16 D5 (in) "18-bit data input port", 17 D4 (in) "18-bit data input port", 18 D3 (in) "18-bit data input port", 19 D2 (in) "18-bit data input port", 20 D1 (in) "18-bit data input port", 21 D0 (in) "18-bit data input port", 33 Q0 (hiz) "18-bit data output port. After the first valid write to empty memory, the first word is output on Q0-Q17 on the third rising edge of RDCLK. OR is also asserted high at this time to indicate ready data. When OR is low, th(See Datasheet)", 34 Q1 (hiz) "18-bit data output port. After the first valid write to empty memory, the first word is output on Q0-Q17 on the third rising edge of RDCLK. OR is also asserted high at this time to indicate ready data. When OR is low, th(See Datasheet)", 36 Q2 (hiz) "18-bit data output port. After the first valid write to empty memory, the first word is output on Q0-Q17 on the third rising edge of RDCLK. OR is also asserted high at this time to indicate ready data. When OR is low, th(See Datasheet)", 37 Q3 (hiz) "18-bit data output port. After the first valid write to empty memory, the first word is output on Q0-Q17 on the third rising edge of RDCLK. OR is also asserted high at this time to indicate ready data. When OR is low, th(See Datasheet)", 38 Q4 (hiz) "18-bit data output port. After the first valid write to empty memory, the first word is output on Q0-Q17 on the third rising edge of RDCLK. OR is also asserted high at this time to indicate ready data. When OR is low, th(See Datasheet)", 40 Q5 (hiz) "18-bit data output port. After the first valid write to empty memory, the first word is output on Q0-Q17 on the third rising edge of RDCLK. OR is also asserted high at this time to indicate ready data. When OR is low, th(See Datasheet)", 41 Q6 (hiz) "18-bit data output port. After the first valid write to empty memory, the first word is output on Q0-Q17 on the third rising edge of RDCLK. OR is also asserted high at this time to indicate ready data. When OR is low, th(See Datasheet)", 42 Q7 (hiz) "18-bit data output port. After the first valid write to empty memory, the first word is output on Q0-Q17 on the third rising edge of RDCLK. OR is also asserted high at this time to indicate ready data. When OR is low, th(See Datasheet)", 43 Q8 (hiz) "18-bit data output port. After the first valid write to empty memory, the first word is output on Q0-Q17 on the third rising edge of RDCLK. OR is also asserted high at this time to indicate ready data. When OR is low, th(See Datasheet)", 45 Q9 (hiz) "18-bit data output port. After the first valid write to empty memory, the first word is output on Q0-Q17 on the third rising edge of RDCLK. OR is also asserted high at this time to indicate ready data. When OR is low, th(See Datasheet)", 46 Q10 (hiz) "18-bit data output port. After the first valid write to empty memory, the first word is output on Q0-Q17 on the third rising edge of RDCLK. OR is also asserted high at this time to indicate ready data. When OR is low, th(See Datasheet)", 47 Q11 (hiz) "18-bit data output port. After the first valid write to empty memory, the first word is output on Q0-Q17 on the third rising edge of RDCLK. OR is also asserted high at this time to indicate ready data. When OR is low, th(See Datasheet)", 48 Q12 (hiz) "18-bit data output port. After the first valid write to empty memory, the first word is output on Q0-Q17 on the third rising edge of RDCLK. OR is also asserted high at this time to indicate ready data. When OR is low, th(See Datasheet)", 49 Q13 (hiz) "18-bit data output port. After the first valid write to empty memory, the first word is output on Q0-Q17 on the third rising edge of RDCLK. OR is also asserted high at this time to indicate ready data. When OR is low, th(See Datasheet)", 51 Q14 (hiz) "18-bit data output port. After the first valid write to empty memory, the first word is output on Q0-Q17 on the third rising edge of RDCLK. OR is also asserted high at this time to indicate ready data. When OR is low, th(See Datasheet)", 53 Q15 (hiz) "18-bit data output port. After the first valid write to empty memory, the first word is output on Q0-Q17 on the third rising edge of RDCLK. OR is also asserted high at this time to indicate ready data. When OR is low, th(See Datasheet)", 54 Q16 (hiz) "18-bit data output port. After the first valid write to empty memory, the first word is output on Q0-Q17 on the third rising edge of RDCLK. OR is also asserted high at this time to indicate ready data. When OR is low, th(See Datasheet)", 55 Q17 (hiz) "18-bit data output port. After the first valid write to empty memory, the first word is output on Q0-Q17 on the third rising edge of RDCLK. OR is also asserted high at this time to indicate ready data. When OR is low, th(See Datasheet)"
part B pins: 1 ~{RST} (in) "Reset. To reset the FIFO, four low-to-high transitions of RDCLK and four low-to-high transitions of WRTCLK must occur while R\E\S\E\T\ is low. This sets HF, IR, and OR low and AF/AE high.", 22 HF (out) "Half-full flag. HF is high when the FIFO memory contains 256 or more words. HF is low after reset.", 23 ~{PEN} (in) "Program enable. After reset and before the first word is written to the FIFO, the binary value on D0-D7 is latched as an AF/AE offset value when P\E\N\ is low and WRTCLK is high", 24 AF/AE (out) "Almost-full/almost-empty flag. Depth offset values can be programmed for AF/AE, or the default value of 64 can be used for both the almost-empty offset (X) and the almost-full offset (Y). AF/AE is high when memory contains X (See Datasheet)", 25 WRTCLK (in) "Write clock. WRTCLK is a continuous clock and can be asynchronous or coincident to RDCLK. A low-to-high transition of WRTCLK writes data to memory when W\R\T\E\N\2\ is low, WRTEN1 is high, and IR is high. IR is synchronous (See Datasheet)", 26 ~{WRTEN2} (in) "Write enables. When WRTEN1 is high, W\R\T\E\N\2\ is low, and IR is high, data is written to the FIFO on a low-to-high transition of WRTCLK.", 27 WRTEN1 (in) "Write enables. When WRTEN1 is high, W\R\T\E\N\2\ is low, and IR is high, data is written to the FIFO on a low-to-high transition of WRTCLK.", 28 IR (out) "Input ready flag. IR is synchronized to the low-to-high transition of WRTCLK. When IR is low, the FIFO is full and writes are disabled. IR is low during reset and goes high on the second low-to-high transition of WRTCLK (See Datasheet)", 29 OR (out) "Output ready flag. OR is synchronized to the low-to-high transition of RDCLK. When OR is low, the FIFO is empty and reads are disabled. Ready data is present on Q0-Q17 when OR is high. OR is low during reset and goes hig(See Datasheet)", 30 ~{OE2} (in) "Output enables. When O\E\1\, O\E\2\, and R\D\E\N\ are low and OR is high, data is read from the FIFO on a low-to-high transition of RDCLK. When either O\E\1\ or O\E\2\ is high, reads are disabled and the data outputs are in (See Datasheet)", 31 ~{RDEN} (in) "Read enable. When R\D\E\N\, O\E\1\, and O\E\2\ are low and OR is high, data is read from the FIFO on the low-to-high transition of RDCLK.", 32 RDCLK (in) "Read clock. RDCLK is a continuous clock and can be asynchronous or coincident to WRTCLK. A low-to-high transition of RDCLK reads data from memory when O\E\1\, O\E\2\, and R\D\E\N\ are low and OR is high. OR is synchronous to (See Datasheet)", 56 ~{OE1} (in) "Output enables. When O\E\1\, O\E\2\, and R\D\E\N\ are low and OR is high, data is read from the FIFO on a low-to-high transition of RDCLK. When either O\E\1\ or O\E\2\ is high, reads are disabled and the data outputs are in (See Datasheet)"
part C pins: 10 VCC (power), 13 GND (power), 35 GND (power), 39 VCC (power), 44 GND (power), 50 VCC (power), 52 GND (power)